# Altium schematic symbol library MCP23008-E_SO.SchLib: 1 symbol
Pins are listed as number, name and electrical type; pins without a type are passive.

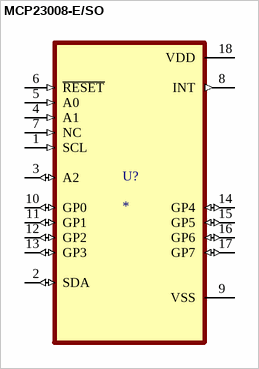
[diagram p0: symbol MCP23008-E/SO]

## MCP23008-E/SO
designator U?
8-BIT INPUT/OUTPUT EXPANDER, I2C INTERFACE | Microchip Technology Inc. MCP23008-E/SO; SnapEDA_Link: https://www.snapeda.com/parts/MCP23008-E/SO/Microchip+Technology/view-part/?ref=snap; Package: SOIC-18 Microchip; Value: *; MF: Microchip; MP: MCP23008-E/SO; Check_prices: https://www.snapeda.com/parts/MCP23008-E/SO/Microchip+Technology/view-part/?ref=eda
footprint SOIC127P1030X265-18N
pins: 1 SCL (in), 2 SDA (io), 3 A2 (io), 4 A1 (in), 5 A0 (in), 6 ~{RESET} (in), 7 NC (in), 8 INT (out), 9 VSS (power), 10 GP0 (io), 11 GP1 (io), 12 GP2 (io), 13 GP3 (io), 14 GP4 (io), 15 GP5 (io), 16 GP6 (io), 17 GP7 (io), 18 VDD (power)